# Altium footprint library Arturo_PCB.PcbLib: 40 footprints (part 2 of 3)
Each footprint in its own frame and in the unit in brackets; x right, y up, seen from the top. Pads: shape width x height; smd on the part's side, far side on the other; paste and mask are expansions set on the pad; w line width, h text height; cw(c..) or ccw(c..) is an arc to the next point about the centre after c.
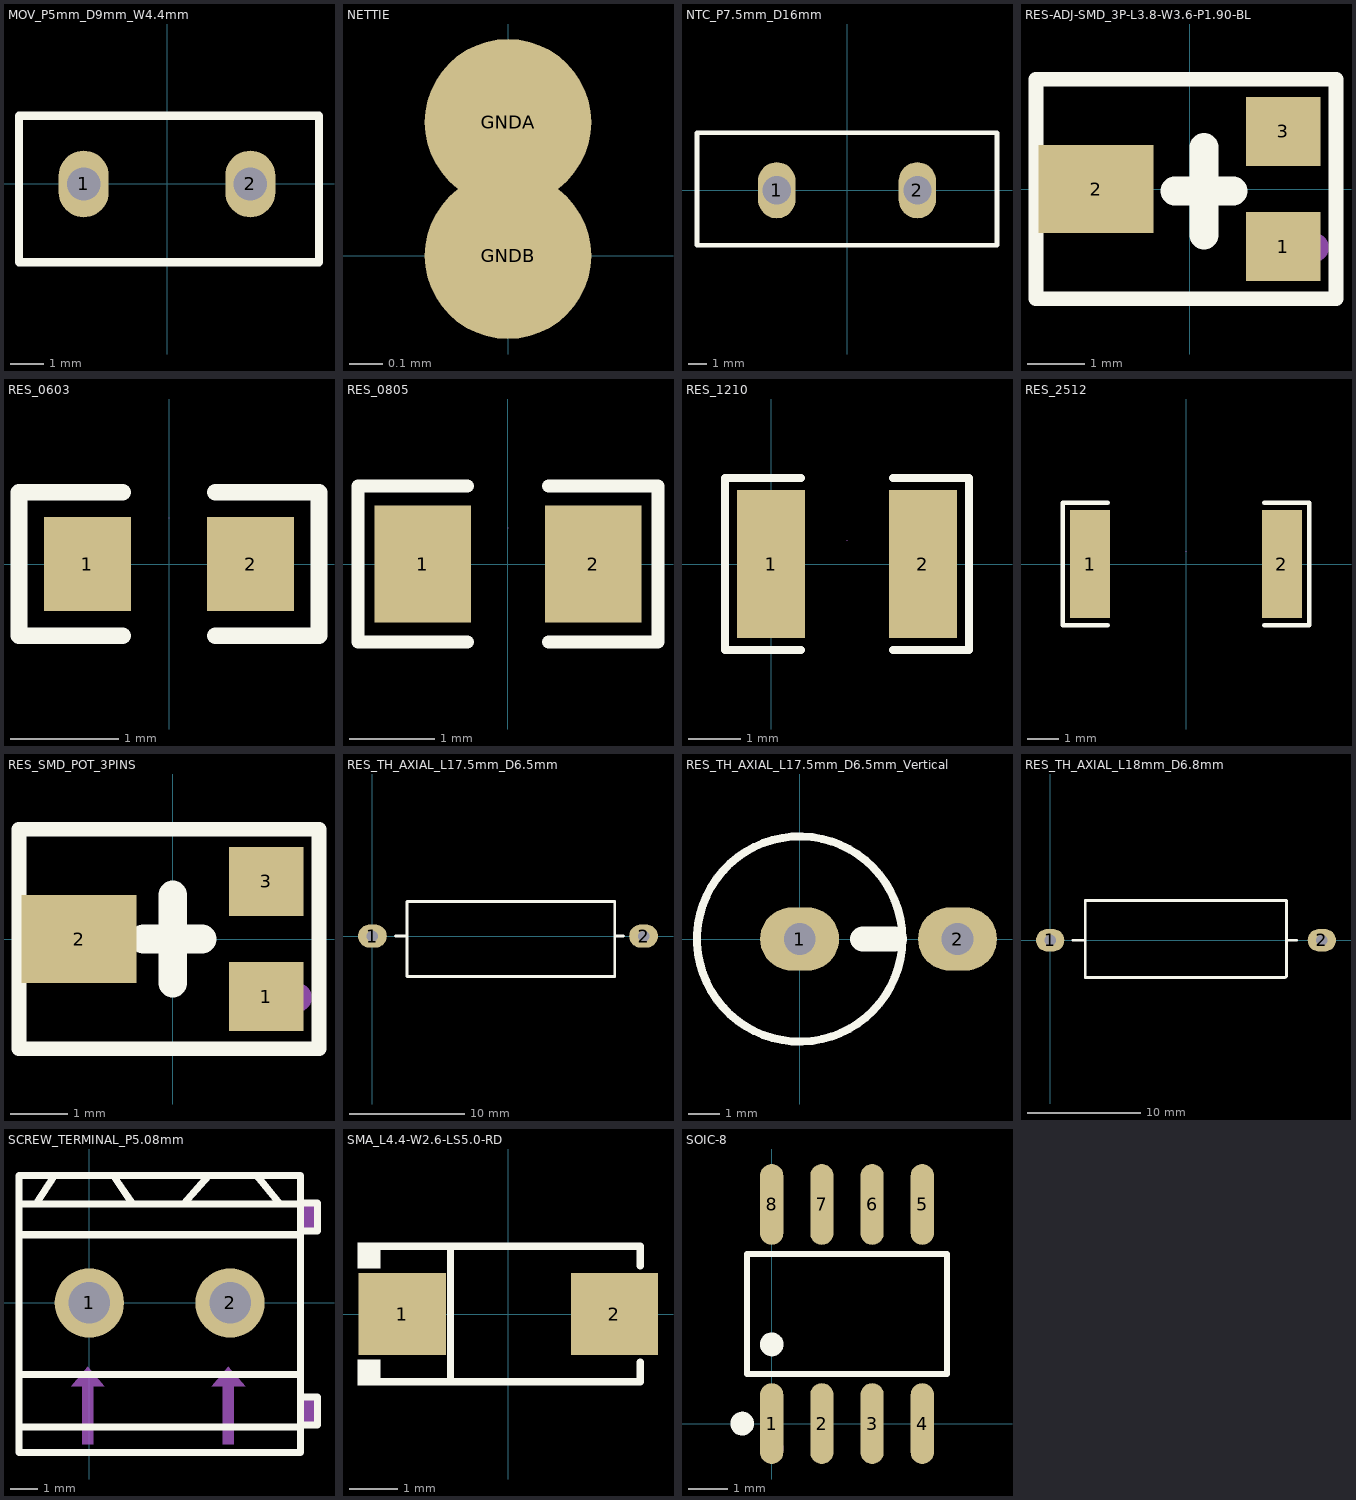
[diagram p1: the footprints below, top view; thin cyan lines are the x and y axes]

## MOV_P5mm_D9mm_W4.4mm [mm]
pads (2):
  oval 1.5x2 hole 1: 1(-2.5,0) 2(2.5,0)
Top Overlay:
  lines w0.254: -4.441,-2.351 -4.441,2.049 4.559,2.049 4.559,-2.351 -4.441,-2.351
3D body: height 11, standoff 2, extent -4.409,-2.338 4.591,2.062

## NETTIE [mm]
pads (2):
  round 0.5 smd: GNDA(0,0.4) GNDB(0,0)

## NTC_P7.5mm_D16mm [mm]
pads (2):
  oval 2x3 hole 1.5: 1(-3.75,0) 2(3.75,0)
Top Overlay:
  lines w0.254: -8.003,-2.932 -8.003,3.068 7.997,3.068 7.997,-2.932 3.997,-2.932 -0.003,-2.932 -4.003,-2.932 -8.003,-2.932
3D body: height 20, standoff 4, extent -8,-3 8,3

## PCBComponent_1 [mm]

## RES-ADJ-SMD_3P-L3.8-W3.6-P1.90-BL [mm]
pads (3):
  rect 1.3x1.2 smd: 1(1.625,-1) 3(1.625,1)
  rect 2x1.524 smd: 2(-1.625,0)
Top Overlay:
  lines w0.254: -2.667,-1.905 -2.667,-1.016 -2.667,1.905 2.54,1.905 2.54,-1.905 -2.667,-1.905
  lines w0.5: -0.26,-0.037 0.756,-0.037 ; 0.248,-0.799 0.248,0.725
Mechanical 15:
  circle w0.254: c2.159,-1.016 r0.127

## RES_0603 [mm]
pads (2):
  rect 0.806x0.864 smd: 1(-0.753,0) 2(0.753,0)
Top Overlay:
  lines w0.152: -0.426,-0.661 -1.385,-0.661 -1.385,0.661 -0.426,0.661 ; 0.426,-0.661 1.385,-0.661 1.385,0.661 0.426,0.661
Top Paste:
  region: -0.355,0.4 -0.355,0.172 -0.735,0.172 -0.735,-0.158 -0.355,-0.158 -0.355,-0.4 -0.405,-0.45 -1.195,-0.45 -1.245,-0.4 -1.245,0.4 -1.195,0.45 -0.405,0.45
  region: 1.195,0.45 0.395,0.45 0.345,0.4 0.345,0.172 0.715,0.172 0.715,-0.158 0.345,-0.158 0.345,-0.4 0.395,-0.45 1.195,-0.45 1.245,-0.4 1.245,0.4
Mechanical 15:
  lines w0.003: 0,0.425 0,0.426

## RES_0805 [mm]
pads (2):
  rect 1.133x1.377 smd: 1(-1,0) 2(1,0)
Top Overlay:
  lines w0.152: -0.476,-0.917 -1.761,-0.917 -1.761,0.917 -0.476,0.917 ; 0.476,-0.917 1.761,-0.917 1.761,0.917 0.476,0.917
Top Paste:
  region: -1.7,-0.64 -1.7,0.64 -1.65,0.69 -0.5,0.69 -0.45,0.64 -0.445,0.23 -0.895,0.23 -0.895,-0.22 -0.455,-0.22 -0.45,-0.64 -0.5,-0.69 -1.65,-0.69
  region: 0.45,-0.64 0.45,-0.22 0.895,-0.22 0.895,0.23 0.455,0.23 0.45,0.64 0.5,0.69 1.65,0.69 1.7,0.64 1.7,-0.64 1.65,-0.69 0.5,-0.69
Mechanical 15:
  lines w0.003: 0,0.424 0,0.424

## RES_1210 [mm]
pads (2):
  rect 1.283x2.808 smd: 1(0,0) 2(2.883,0)
Top Overlay:
  lines w0.152: 0.565,-1.633 -0.87,-1.633 -0.87,1.633 0.565,1.633 ; 2.317,-1.633 3.752,-1.633 3.752,1.633 2.317,1.633
Top Paste:
  region: 2.241,-1.304 2.241,-0.577 2.341,-0.477 2.577,-0.477 2.677,-0.377 2.677,0.377 2.577,0.477 2.341,0.477 2.241,0.577 2.241,1.304 2.341,1.404 3.424,1.404 3.524,1.304 3.524,-1.304 3.424,-1.404 2.341,-1.404
  region: 0.641,-1.304 0.641,-0.577 0.541,-0.477 0.305,-0.477 0.205,-0.377 0.205,0.377 0.305,0.477 0.541,0.477 0.641,0.577 0.641,1.304 0.541,1.404 -0.541,1.404 -0.641,1.304 -0.641,-1.304 -0.541,-1.404 0.541,-1.404
Mechanical 15:
  lines w0.003: 1.441,0.447 1.442,0.448

## RES_2512 [mm]
pads (2):
  rect 1.283x3.456 smd: 1(-3.066,0) 2(3.066,0)
Top Overlay:
  lines w0.152: -2.501,-1.957 -3.936,-1.957 -3.936,1.957 -2.501,1.957 ; 2.501,-1.957 3.936,-1.957 3.936,1.957 2.501,1.957
Top Paste:
  region: -2.425,-1.628 -2.425,-0.688 -2.525,-0.588 -2.761,-0.588 -2.861,-0.488 -2.861,0.488 -2.761,0.588 -2.525,0.588 -2.425,0.688 -2.425,1.628 -2.525,1.728 -3.608,1.728 -3.708,1.628 -3.708,-1.628 -3.608,-1.728 -2.525,-1.728
  region: 2.425,-1.628 2.425,-0.688 2.525,-0.588 2.761,-0.588 2.861,-0.488 2.861,0.488 2.761,0.588 2.525,0.588 2.425,0.688 2.425,1.628 2.525,1.728 3.608,1.728 3.708,1.628 3.708,-1.628 3.608,-1.728 2.525,-1.728
Mechanical 15:
  lines w0.003: 0,0.412 0,0.413

## RES_SMD_POT_3PINS [mm]
pads (3):
  rect 1.3x1.2 smd: 1(1.625,-1) 3(1.625,1)
  rect 2x1.524 smd: 2(-1.625,0)
Top Overlay:
  lines w0.254: -2.667,-1.905 -2.667,-1.016 -2.667,1.905 2.54,1.905 2.54,-1.905 -2.667,-1.905
  lines w0.5: -0.508,0 0.508,0 ; 0,-0.762 0,0.762
Mechanical 15:
  circle w0.254: c2.159,-1.016 r0.127

## RES_TH_AXIAL_L17.5mm_D6.5mm [mm]
pads (2):
  oval 2.5x2 hole 1: 1(0,0) 2(23.5,0)
Top Overlay:
  lines w0.254: 2,0 3,0 ; 21.75,0 21,0 ; 3,0 3,2 3,3 21,3 21,2 21,0 ; 3,0 3,-2 3,-3.5 21,-3.5 21,-2 21,0

## RES_TH_AXIAL_L17.5mm_D6.5mm_Vertical [mm]
pads (2):
  oval 2.5x2 hole 1: 1(0,0) 2(5,0)
Top Overlay:
  circle w0.254: c0,0 r3.25
  lines w0.8: 2,0 3,0

## RES_TH_AXIAL_L18mm_D6.8mm [mm]
pads (2):
  oval 2.5x2 hole 1: 1(0,0) 2(24,0)
Top Overlay:
  lines w0.254: 2,0 3,0 ; 20.741,3.512 20.758,3.495 ; 21,0 21.75,0 ; 3.102,-3.288 3.102,3.512 20.868,3.512 20.868,-3.182 20.761,-3.288 3.102,-3.288

## SCREW_TERMINAL_P5.08mm [mm]
pads (2):
  round 2.5 hole 1.5: 1(0,0) 2(5.08,0)
Top Overlay:
  lines w0.254: -2.54,-4.482 7.62,-4.482 ; -2.54,-2.585 7.493,-2.585 ; -2.54,2.461 7.493,2.461 ; -2.54,3.579 7.62,3.579 ; -1.92,3.579 -1.259,4.6 ; 0.862,4.6 1.56,3.579 ; 3.402,3.579 4.303,4.6 ; 6.043,4.6 6.869,3.579 ; 7.62,-4.4 8.24,-4.4 8.24,-3.4 7.62,-3.4 ; 7.62,2.603 8.24,2.603 8.24,3.603 7.62,3.603 ; -2.54,-5.4 -2.54,4.6 7.62,4.6 7.62,-5.4 -2.54,-5.4
Mechanical 15:
  region: -0.06,-2.3 -0.66,-3 -0.26,-3 -0.26,-5.1 0.14,-5.1 0.14,-3 0.54,-3
  region: 5.02,-2.3 4.42,-3 4.82,-3 4.82,-5.1 5.22,-5.1 5.22,-3 5.62,-3
  region: 7.54,-3.4 8.24,-3.4 8.24,-4.4 7.54,-4.4
  region: 7.59,3.6 8.29,3.6 8.29,2.6 7.59,2.6

## SMA_L4.4-W2.6-LS5.0-RD [mm]
pads (2):
  rect 1.8x1.7 smd: 1(-2.192,0) 2(2.192,0)
Top Overlay:
  region: -2.65,-1.477 -2.65,-0.949 -3.107,-0.949 -3.107,-1.477
  region: -2.65,1.477 -2.65,0.949 -3.107,0.949 -3.107,1.477
  lines w0.152: -2.726,-1.401 2.726,-1.401 2.726,-1 ; -2.726,1.401 2.726,1.401 2.726,1 ; -1.197,-1.401 -1.197,1.401
Mechanical 15:
  region: 2.153,-0.663 2.153,0.663 1.954,0.663 1.954,-0.663
  region: 2.451,-0.099 2.451,0.099 1.656,0.099 1.656,-0.099
  region: -2.451,-0.099 -2.451,0.099 -1.656,0.099 -1.656,-0.099

## SOIC-8 [mm]
pads (8):
  oval 0.588x2.045 smd: 1(0,0) 2(1.27,0) 3(2.54,0) 4(3.81,0) 5(3.81,5.545) 6(2.54,5.545) 7(1.27,5.545) 8(0,5.545)
Top Overlay:
  circle w0.3: c-0.747,0 r0.15
  circle w0.3: c0,2.003 r0.15
  lines w0.152: -0.621,1.251 4.431,1.251 4.431,4.294 -0.621,4.294 -0.621,1.251
Mechanical 15:
  circle w0.3: c0,-0.628 r0.15